# Altium footprint library RL6050.PcbLib: 1 footprints
Each footprint in its own frame and in the unit in brackets; x right, y up, seen from the top. Pads: shape width x height; smd on the part's side, far side on the other; paste and mask are expansions set on the pad; w line width, h text height; cw(c..) or ccw(c..) is an arc to the next point about the centre after c.
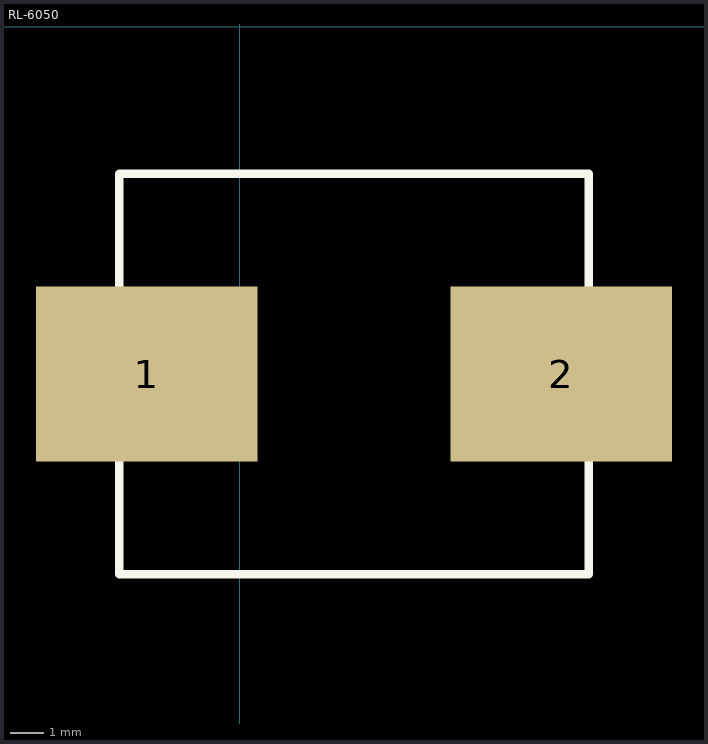
[diagram p0: the footprint, top view; thin cyan lines are the x and y axes]

## RL-6050 [mil]
pads (2):
  rect 260x205 smd: 1(-109,-407) 2(377,-407)
Top Overlay:
  lines w10: -141,-642 -141,-172 409,-172 409,-642 -141,-642
3D body "RL-6050.STEP": height 255.91, standoff 0, extent -114.06,-652.06 378.06,-159.94